# EAGLE library part XR-1020P (library exar)
Telecom instrumentation FILTER
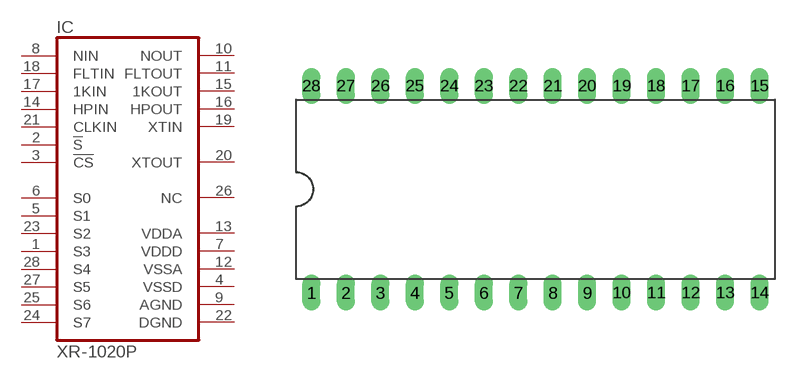
[diagram p99: symbol with the pads of DIL28-6; footprint DIL28-6]

Designator prefix IC

## XR-1020P (OC_FARNELL: unknown; OC_NEWARK: unknown)  [DIL28-6]
1  S3  in
2  !S  in
3  !CS  in
4  VSSD  pwr
5  S1  in
6  S0  in
7  VDDD  pwr
8  NIN  in
9  AGND  pwr
10  NOUT  out
11  FLTOUT  out
12  VSSA  pwr
13  VDDA  pwr
14  HPIN  in
15  1KOUT  out
16  HPOUT  out
17  1KIN  in
18  FLTIN  in
19  XTIN  in
20  XTOUT  out
21  CLKIN  in
22  DGND  pwr
23  S2  in
24  S7  in
25  S6  in
26  NC  nc
27  S5  in
28  S4  in

## Footprint DIL28-6 (pad centres in mm)
Dual In Line Package 0.6 inch
drill 0.813 long: 1 -16.51,-7.62; 2 -13.97,-7.62; 3 -11.43,-7.62; 4 -8.89,-7.62; 5 -6.35,-7.62; 6 -3.81,-7.62; 7 -1.27,-7.62; 8 1.27,-7.62; 9 3.81,-7.62; 10 6.35,-7.62; 11 8.89,-7.62; 12 11.43,-7.62; 13 13.97,-7.62; 14 16.51,-7.62; 15 16.51,7.62; 16 13.97,7.62; 17 11.43,7.62; 18 8.89,7.62; 19 6.35,7.62; 20 3.81,7.62; 21 1.27,7.62; 22 -1.27,7.62; 23 -3.81,7.62; 24 -6.35,7.62; 25 -8.89,7.62; 26 -11.43,7.62; 27 -13.97,7.62; 28 -16.51,7.62